# EAGLE library part MICROFIT-8-DUAL (library Molex-Aaron)
Molex MicroFit 3.0mm Pitch Header, Surface Mount, Dual Row, Vertical, with Press-Fit Metal Retention Clip, 8 Circuits, Tin (Sn) Plating, Glow Wire Compatible Drawing: http://www.molex.com/pdm_docs/sd/430450815_sd.pdf Website: http://www.molex.com/molex/products/datasheet.jsp?part=active/0430450815_PCB_HEADERS.xml
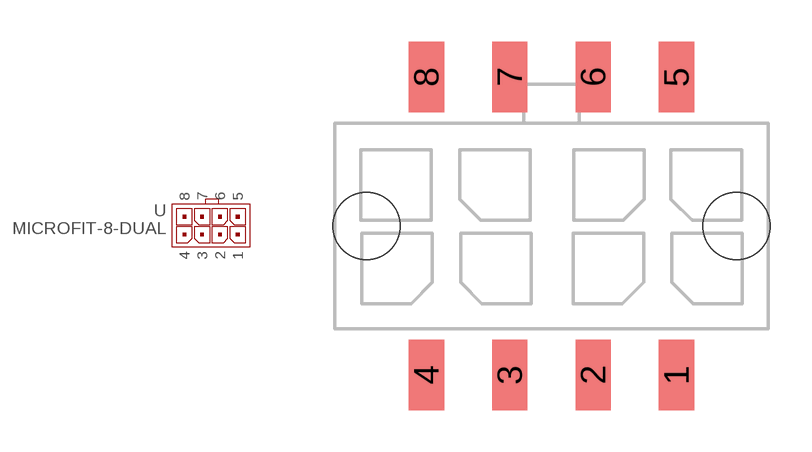
[diagram p10: symbol with the pads of MICROFIT-8-DUAL-VERT-SMD-CLIP_RETENTION; footprint MICROFIT-8-DUAL-VERT-SMD-CLIP_RETENTION]

Designator prefix -

## MICROFIT-8-DUAL-VERT-SMD-CLIP_RETENTION  [MICROFIT-8-DUAL-VERT-SMD-CLIP_RETENTION]
1  1
2  2
3  3
4  4
5  5
6  6
7  7
8  8

## Footprint MICROFIT-8-DUAL-VERT-SMD-CLIP_RETENTION (pad centres in mm)
smd 1.27 x 2.54: 1 4.5,-5.36; 2 1.5,-5.36; 3 -1.5,-5.36; 4 -4.5,-5.36; 5 4.5,5.36; 6 1.5,5.36; 7 -1.5,5.36; 8 -4.5,5.36
hole 2.41 at 6.65,0
hole 2.41 at -6.65,0